# Altium schematic symbol library RC0201FR-0756K2L.SchLib: 1 symbol
Pins are listed as number, name and electrical type; pins without a type are passive.

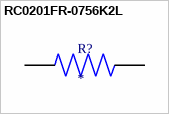
[diagram p0: symbol RC0201FR-0756K2L]

## RC0201FR-0756K2L
designator R?
RES SMD 56.2K OHM 1% 1/20W 0201; MP: RC0201FR-0756K2L; MF: {'manufacturer': u'Yageo'}; Price: None; Availability: Unavailable; Value: *; Package: None
footprint RESC0603X26N
pins: 1, 2